# EAGLE library part ZFKKDS_1,5-5,05_32 (library phoenix_contact_ZFKKDS_1,5-5,08)
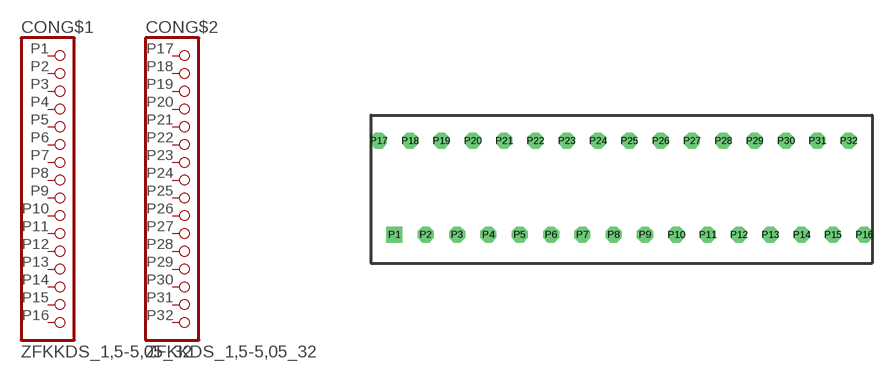
[diagram p1: symbol with the pads of ZFKKDS_1,5-5,05_32; footprint ZFKKDS_1,5-5,05_32]

Designator prefix CON; gates G$1=PINHD16 G$2=PINHD16

## ZFKKDS_1,5-5,05_32  [ZFKKDS_1,5-5,05_32]
P1  G$1:1  pas
P2  G$1:2  pas
P3  G$1:3  pas
P4  G$1:4  pas
P5  G$1:5  pas
P6  G$1:6  pas
P7  G$1:7  pas
P8  G$1:8  pas
P9  G$1:9  pas
P10  G$1:10  pas
P11  G$1:11  pas
P12  G$1:12  pas
P13  G$1:13  pas
P14  G$1:14  pas
P15  G$1:15  pas
P16  G$1:16  pas
P17  G$2:1  pas
P18  G$2:2  pas
P19  G$2:3  pas
P20  G$2:4  pas
P21  G$2:5  pas
P22  G$2:6  pas
P23  G$2:7  pas
P24  G$2:8  pas
P25  G$2:9  pas
P26  G$2:10  pas
P27  G$2:11  pas
P28  G$2:12  pas
P29  G$2:13  pas
P30  G$2:14  pas
P31  G$2:15  pas
P32  G$2:16  pas

## Footprint ZFKKDS_1,5-5,05_32 (pad centres in mm)
drill 1.3 pad 2.6 square: P1 -36.83,-7.62
drill 1.3 pad 2.6 octagon: P2 -31.75,-7.62; P3 -26.67,-7.62; P4 -21.59,-7.62; P5 -16.51,-7.62; P6 -11.43,-7.62; P7 -6.35,-7.62; P8 -1.27,-7.62; P9 3.81,-7.62; P10 8.89,-7.62; P11 13.97,-7.62; P12 19.05,-7.62; P13 24.13,-7.62; P14 29.21,-7.62; P15 34.29,-7.62; P16 39.37,-7.62; P17 -39.37,7.62; P18 -34.29,7.62; P19 -29.21,7.62; P20 -24.13,7.62; P21 -19.05,7.62; P22 -13.97,7.62; P23 -8.89,7.62; P24 -3.81,7.62; P25 1.27,7.62; P26 6.35,7.62; P27 11.43,7.62; P28 16.51,7.62; P29 21.59,7.62; P30 26.67,7.62; P31 31.75,7.62; P32 36.83,7.62